# Altium integrated library ST Operational Amplifier.IntLib: 566 symbols (part 7 of 7)
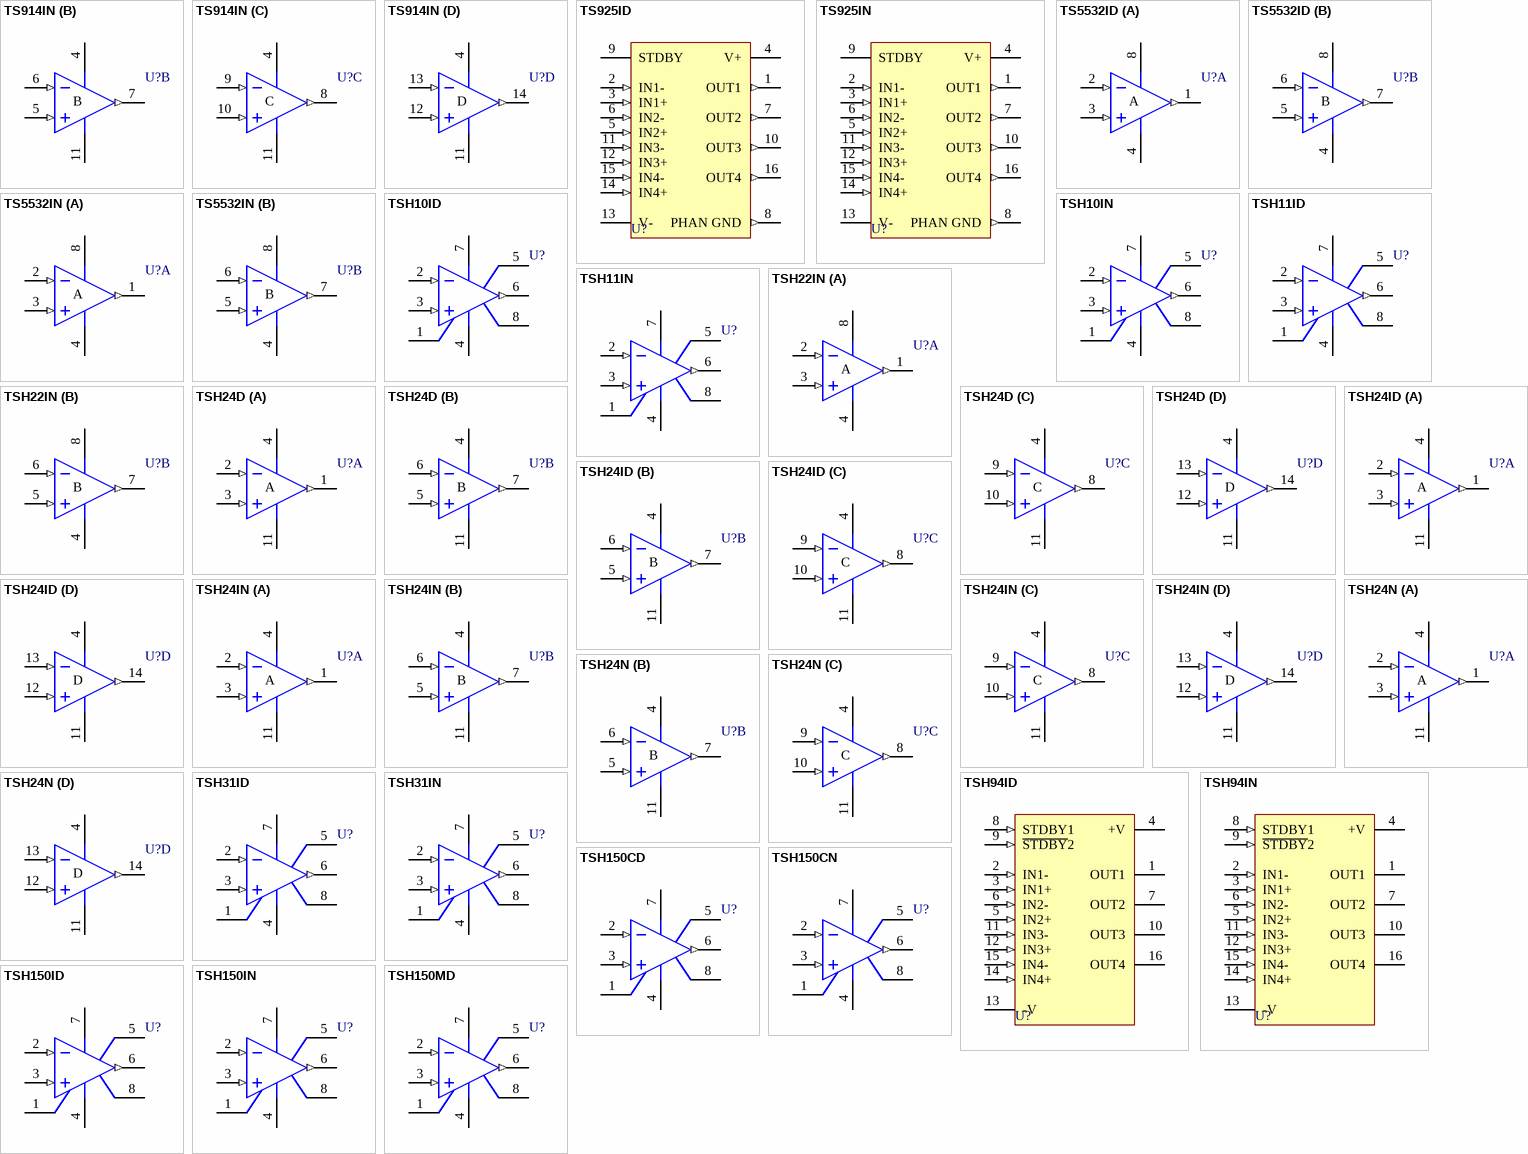
[diagram p38: symbols TS914IN to TSH150MD]

## TSH150ID
designator U?
Wide-Bandwidth and Bipolar Inputs Single Operational Amplifier; Note: Pins 5 is Not Connected; Published: 24-Aug-2001; LatestRevisionDate: 17-Jul-2002; LatestRevisionNote: Re-released for DXP Platform.; DatasheetDocument: Jun-1998; PackageDocument: Jul-1998; PackageReference: SO8; Publisher: Altium Limited; Code_JEDEC: MS-012-AA; Code_IPC: SO8
footprint SO8 (Small Outline; 8 Leads; Body Width 3.9 mm; Pitch 1.27 mm)
pins: 1 NULL1, 2 IN- (in), 3 IN+ (in), 4 V- (power), 5 NC, 6 OUT (out), 7 V+ (power), 8 NULL2

## TSH150IN
designator U?
Wide-Bandwidth and Bipolar Inputs Single Operational Amplifier; Note: Pins 5 is Not Connected; Published: 24-Aug-2001; LatestRevisionDate: 17-Jul-2002; LatestRevisionNote: Re-released for DXP Platform.; DatasheetDocument: Jun-1998; PackageReference: DIP8; Publisher: Altium Limited; Code_JEDEC: MO-001-AN
footprint DIP8 (DIP; 8 Leads; Row Spacing 7.62 mm; Pitch 2.54 mm)
pins: 1 NULL1, 2 IN- (in), 3 IN+ (in), 4 V- (power), 5 NC, 6 OUT (out), 7 V+ (power), 8 NULL2

## TSH150MD
designator U?
Wide-Bandwidth and Bipolar Inputs Single Operational Amplifier; Note: Pins 5 is Not Connected; Published: 24-Aug-2001; LatestRevisionDate: 17-Jul-2002; LatestRevisionNote: Re-released for DXP Platform.; DatasheetDocument: Oct-1995; PackageDocument: Jul-1998; PackageReference: SO8; Publisher: Altium Limited; Code_JEDEC: MS-012-AA; Code_IPC: SO8
footprint SO8 (Small Outline; 8 Leads; Body Width 3.9 mm; Pitch 1.27 mm)
pins: 1 NULL1, 2 IN- (in), 3 IN+ (in), 4 V- (power), 5 NC, 6 OUT (out), 7 V+ (power), 8 NULL2

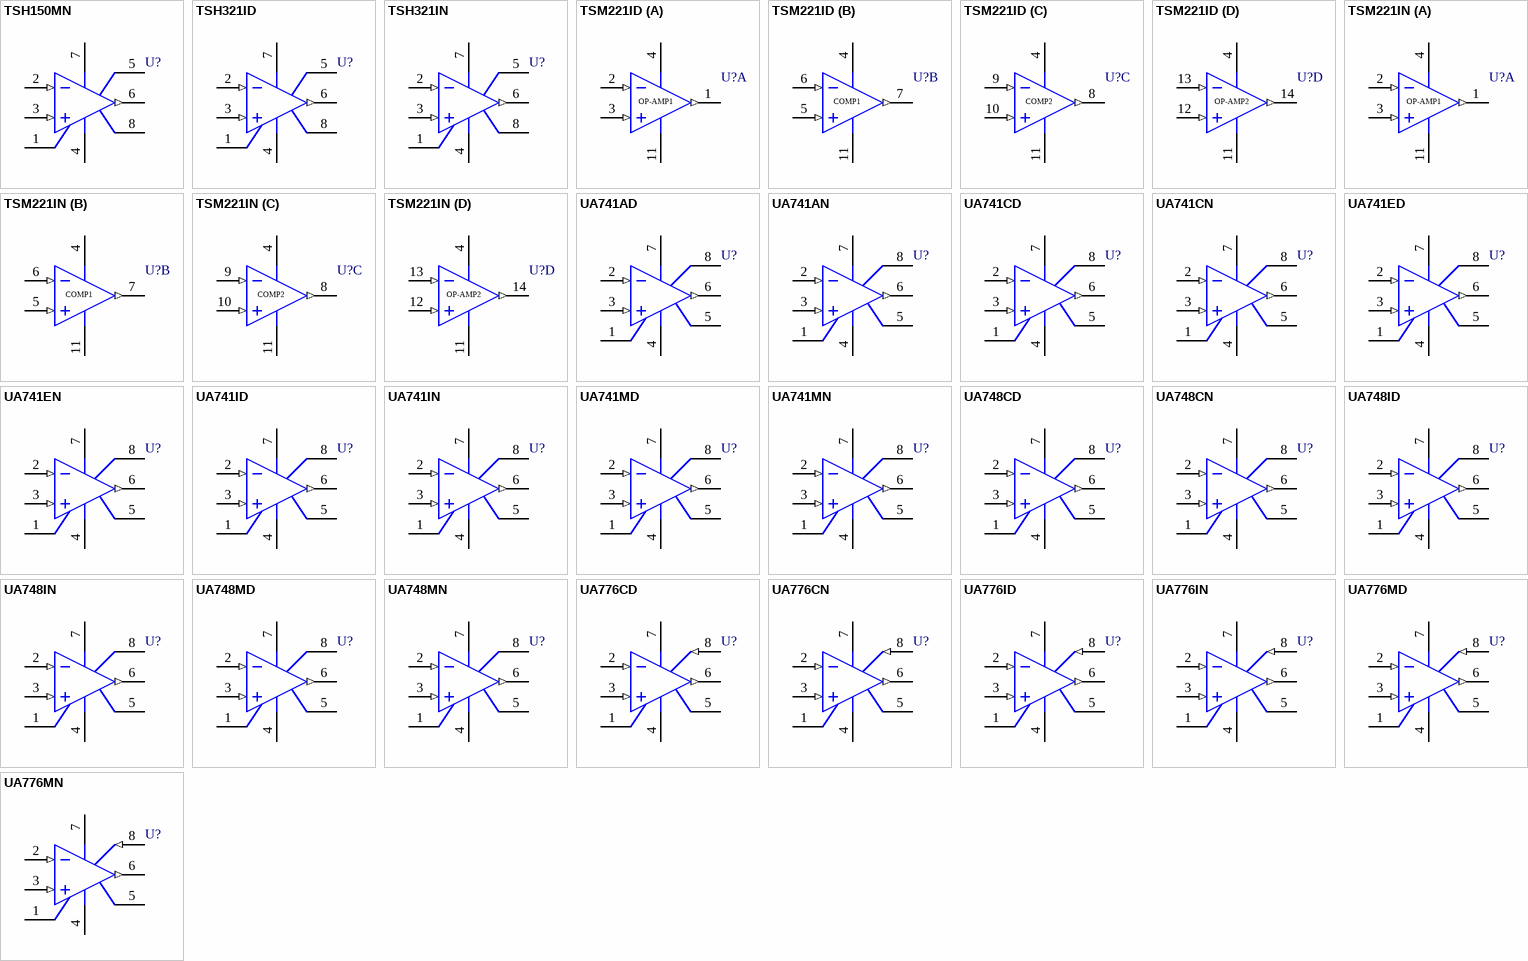
[diagram p32: symbols TSH150MN to UA776MN]

## TSH150MN
designator U?
Wide-Bandwidth and Bipolar Inputs Single Operational Amplifier; Note: Pins 5 is Not Connected; Published: 24-Aug-2001; LatestRevisionDate: 17-Jul-2002; LatestRevisionNote: Re-released for DXP Platform.; DatasheetDocument: Oct-1995; PackageReference: DIP8; Publisher: Altium Limited; Code_JEDEC: MO-001-AN
footprint DIP8 (DIP; 8 Leads; Row Spacing 7.62 mm; Pitch 2.54 mm)
pins: 1 NULL1, 2 IN- (in), 3 IN+ (in), 4 V- (power), 5 NC, 6 OUT (out), 7 V+ (power), 8 NULL2

## TSH321ID
designator U?
Wide-Bandwidth and MOS Inputs Single Operational Amplifier; Note: Pins 5 is Not Connected; Published: 24-Aug-2001; LatestRevisionDate: 17-Jul-2002; LatestRevisionNote: Re-released for DXP Platform.; DatasheetDocument: Jun-1998; PackageDocument: Jul-1998; PackageReference: SO8; Publisher: Altium Limited; Code_JEDEC: MS-012-AA; Code_IPC: SO8
footprint SO8 (Small Outline; 8 Leads; Body Width 3.9 mm; Pitch 1.27 mm)
pins: 1 NULL1, 2 IN- (in), 3 IN+ (in), 4 V- (power), 5 NC, 6 OUT (out), 7 V+ (power), 8 NULL2

## TSH321IN
designator U?
Wide-Bandwidth and MOS Inputs Single Operational Amplifier; Note: Pins 5 is Not Connected; Published: 24-Aug-2001; LatestRevisionDate: 17-Jul-2002; LatestRevisionNote: Re-released for DXP Platform.; DatasheetDocument: Jun-1998; PackageReference: DIP8; Publisher: Altium Limited; Code_JEDEC: MO-001-AN
footprint DIP8 (DIP; 8 Leads; Row Spacing 7.62 mm; Pitch 2.54 mm)
pins: 1 NULL1, 2 IN- (in), 3 IN+ (in), 4 V- (power), 5 NC, 6 OUT (out), 7 V+ (power), 8 NULL2

## TSM221ID
designator U?
Dual CMOS Rail-to-Rail Operational Amplifier and Dual CMOS Comparator; Published: 24-Aug-2001; LatestRevisionDate: 17-Jul-2002; LatestRevisionNote: Re-released for DXP Platform.; DatasheetDocument: Dec-1997; PackageDocument: Sep-1998; PackageReference: SO14; Publisher: Altium Limited
footprint SO14 (Small Outline; 14 Leads; Body Width 3.9 mm; Pitch 1.27 mm)
pins on every part: 4 V+ (power), 11 V- (power)
part A pins: 1 OUT (out), 2 IN- (in), 3 IN+ (in)
part B pins: 5 IN+ (in), 6 IN- (in), 7 OUT (out)
part C pins: 8 OUT (out), 9 IN- (in), 10 IN+ (in)
part D pins: 12 IN+ (in), 13 IN- (in), 14 OUT (out)
part A text: OP-AMP1
part B text: COMP1
part C text: COMP2
part D text: OP-AMP2

## TSM221IN
designator U?
Dual CMOS Rail-to-Rail Operational Amplifier and Dual CMOS Comparator; Published: 24-Aug-2001; LatestRevisionDate: 17-Jul-2002; LatestRevisionNote: Re-released for DXP Platform.; DatasheetDocument: Dec-1997; PackageDocument: Jan-1997; PackageReference: DIP14; Publisher: Altium Limited
footprint DIP14 (DIP; 14 Leads; Row Spacing 7.62 mm; Pitch 2.54 mm)
pins on every part: 4 V+ (power), 11 V- (power)
part A pins: 1 OUT (out), 2 IN- (in), 3 IN+ (in)
part B pins: 5 IN+ (in), 6 IN- (in), 7 OUT (out)
part C pins: 8 OUT (out), 9 IN- (in), 10 IN+ (in)
part D pins: 12 IN+ (in), 13 IN- (in), 14 OUT (out)
part A text: OP-AMP1
part B text: COMP1
part C text: COMP2
part D text: OP-AMP2

## UA741AD
designator U?
General-Purpose Single Operational Amplifier; Published: 24-Aug-2001; LatestRevisionDate: 17-Jul-2002; LatestRevisionNote: Re-released for DXP Platform.; DatasheetDocument: Oct-1997; PackageDocument: Jul-1998; PackageReference: SO8; Publisher: Altium Limited; Code_JEDEC: MS-012-AA; Code_IPC: SO8
footprint SO8 (Small Outline; 8 Leads; Body Width 3.9 mm; Pitch 1.27 mm)
simulation model UA741 (SUBCKT)
pins: 1 OS NULL, 2 IN- (in), 3 IN+ (in), 4 V- (power), 5 OS NULL, 6 OUT (out), 7 V+ (power), 8 NC

## UA741AN
designator U?
General-Purpose Single Operational Amplifier; Published: 24-Aug-2001; LatestRevisionDate: 17-Jul-2002; LatestRevisionNote: Re-released for DXP Platform.; DatasheetDocument: Oct-1997; PackageReference: DIP8; Publisher: Altium Limited; Code_JEDEC: MO-001-AN
footprint DIP8 (DIP; 8 Leads; Row Spacing 7.62 mm; Pitch 2.54 mm)
simulation model UA741 (SUBCKT)
pins: 1 OS NULL, 2 IN- (in), 3 IN+ (in), 4 V- (power), 5 OS NULL, 6 OUT (out), 7 V+ (power), 8 NC

## UA741CD
designator U?
General-Purpose Single Operational Amplifier; Published: 24-Aug-2001; LatestRevisionDate: 17-Jul-2002; LatestRevisionNote: Re-released for DXP Platform.; DatasheetDocument: Oct-1997; PackageDocument: Jul-1998; PackageReference: SO8; Publisher: Altium Limited; Code_JEDEC: MS-012-AA; Code_IPC: SO8
footprint SO8 (Small Outline; 8 Leads; Body Width 3.9 mm; Pitch 1.27 mm)
simulation model UA741 (SUBCKT)
pins: 1 OS NULL, 2 IN- (in), 3 IN+ (in), 4 V- (power), 5 OS NULL, 6 OUT (out), 7 V+ (power), 8 NC

## UA741CN
designator U?
General-Purpose Single Operational Amplifier; Published: 24-Aug-2001; LatestRevisionDate: 17-Jul-2002; LatestRevisionNote: Re-released for DXP Platform.; DatasheetDocument: Oct-1997; PackageReference: DIP8; Publisher: Altium Limited; Code_JEDEC: MO-001-AN
footprint DIP8 (DIP; 8 Leads; Row Spacing 7.62 mm; Pitch 2.54 mm)
simulation model UA741 (SUBCKT)
pins: 1 OS NULL, 2 IN- (in), 3 IN+ (in), 4 V- (power), 5 OS NULL, 6 OUT (out), 7 V+ (power), 8 NC

## UA741ED
designator U?
General-Purpose Single Operational Amplifier; Published: 24-Aug-2001; LatestRevisionDate: 17-Jul-2002; LatestRevisionNote: Re-released for DXP Platform.; DatasheetDocument: Oct-1997; PackageDocument: Jul-1998; PackageReference: SO8; Publisher: Altium Limited; Code_JEDEC: MS-012-AA; Code_IPC: SO8
footprint SO8 (Small Outline; 8 Leads; Body Width 3.9 mm; Pitch 1.27 mm)
simulation model UA741 (SUBCKT)
pins: 1 OS NULL, 2 IN- (in), 3 IN+ (in), 4 V- (power), 5 OS NULL, 6 OUT (out), 7 V+ (power), 8 NC

## UA741EN
designator U?
General-Purpose Single Operational Amplifier; Published: 24-Aug-2001; LatestRevisionDate: 17-Jul-2002; LatestRevisionNote: Re-released for DXP Platform.; DatasheetDocument: Oct-1997; PackageReference: DIP8; Publisher: Altium Limited; Code_JEDEC: MO-001-AN
footprint DIP8 (DIP; 8 Leads; Row Spacing 7.62 mm; Pitch 2.54 mm)
simulation model UA741 (SUBCKT)
pins: 1 OS NULL, 2 IN- (in), 3 IN+ (in), 4 V- (power), 5 OS NULL, 6 OUT (out), 7 V+ (power), 8 NC

## UA741ID
designator U?
General-Purpose Single Operational Amplifier; Published: 24-Aug-2001; LatestRevisionDate: 17-Jul-2002; LatestRevisionNote: Re-released for DXP Platform.; DatasheetDocument: Oct-1997; PackageDocument: Jul-1998; PackageReference: SO8; Publisher: Altium Limited; Code_JEDEC: MS-012-AA; Code_IPC: SO8
footprint SO8 (Small Outline; 8 Leads; Body Width 3.9 mm; Pitch 1.27 mm)
simulation model UA741 (SUBCKT)
pins: 1 OS NULL, 2 IN- (in), 3 IN+ (in), 4 V- (power), 5 OS NULL, 6 OUT (out), 7 V+ (power), 8 NC

## UA741IN
designator U?
General-Purpose Single Operational Amplifier; Published: 24-Aug-2001; LatestRevisionDate: 17-Jul-2002; LatestRevisionNote: Re-released for DXP Platform.; DatasheetDocument: Oct-1997; PackageReference: DIP8; Publisher: Altium Limited; Code_JEDEC: MO-001-AN
footprint DIP8 (DIP; 8 Leads; Row Spacing 7.62 mm; Pitch 2.54 mm)
simulation model UA741 (SUBCKT)
pins: 1 OS NULL, 2 IN- (in), 3 IN+ (in), 4 V- (power), 5 OS NULL, 6 OUT (out), 7 V+ (power), 8 NC

## UA741MD
designator U?
General-Purpose Single Operational Amplifier; Published: 24-Aug-2001; LatestRevisionDate: 17-Jul-2002; LatestRevisionNote: Re-released for DXP Platform.; DatasheetDocument: Oct-1997; PackageDocument: Jul-1998; PackageReference: SO8; Publisher: Altium Limited; Code_JEDEC: MS-012-AA; Code_IPC: SO8
footprint SO8 (Small Outline; 8 Leads; Body Width 3.9 mm; Pitch 1.27 mm)
simulation model UA741 (SUBCKT)
pins: 1 OS NULL, 2 IN- (in), 3 IN+ (in), 4 V- (power), 5 OS NULL, 6 OUT (out), 7 V+ (power), 8 NC

## UA741MN
designator U?
General-Purpose Single Operational Amplifier; Published: 24-Aug-2001; LatestRevisionDate: 17-Jul-2002; LatestRevisionNote: Re-released for DXP Platform.; DatasheetDocument: Oct-1997; PackageReference: DIP8; Publisher: Altium Limited; Code_JEDEC: MO-001-AN
footprint DIP8 (DIP; 8 Leads; Row Spacing 7.62 mm; Pitch 2.54 mm)
simulation model UA741 (SUBCKT)
pins: 1 OS NULL, 2 IN- (in), 3 IN+ (in), 4 V- (power), 5 OS NULL, 6 OUT (out), 7 V+ (power), 8 NC

## UA748CD
designator U?
Precision Single Operational Amplifier; Published: 24-Aug-2001; LatestRevisionDate: 17-Jul-2002; LatestRevisionNote: Re-released for DXP Platform.; DatasheetDocument: Dec-1997; PackageDocument: Jul-1998; PackageReference: SO8; Publisher: Altium Limited; Code_JEDEC: MS-012-AA; Code_IPC: SO8
footprint SO8 (Small Outline; 8 Leads; Body Width 3.9 mm; Pitch 1.27 mm)
simulation model UA748 (SUBCKT)
pins: 1 OS NULL1/FCOMP, 2 IN- (in), 3 IN+ (in), 4 V- (power), 5 OS NULL2, 6 OUT (out), 7 V+ (power), 8 FCOMP

## UA748CN
designator U?
Precision Single Operational Amplifier; Published: 24-Aug-2001; LatestRevisionDate: 17-Jul-2002; LatestRevisionNote: Re-released for DXP Platform.; DatasheetDocument: Dec-1997; PackageReference: DIP8; Publisher: Altium Limited; Code_JEDEC: MO-001-AN
footprint DIP8 (DIP; 8 Leads; Row Spacing 7.62 mm; Pitch 2.54 mm)
simulation model UA748 (SUBCKT)
pins: 1 OS NULL1/FCOMP, 2 IN- (in), 3 IN+ (in), 4 V- (power), 5 OS NULL2, 6 OUT (out), 7 V+ (power), 8 FCOMP

## UA748ID
designator U?
Precision Single Operational Amplifier; Published: 24-Aug-2001; LatestRevisionDate: 17-Jul-2002; LatestRevisionNote: Re-released for DXP Platform.; DatasheetDocument: Dec-1997; PackageDocument: Jul-1998; PackageReference: SO8; Publisher: Altium Limited; Code_JEDEC: MS-012-AA; Code_IPC: SO8
footprint SO8 (Small Outline; 8 Leads; Body Width 3.9 mm; Pitch 1.27 mm)
simulation model UA748 (SUBCKT)
pins: 1 OS NULL1/FCOMP, 2 IN- (in), 3 IN+ (in), 4 V- (power), 5 OS NULL2, 6 OUT (out), 7 V+ (power), 8 FCOMP

## UA748IN
designator U?
Precision Single Operational Amplifier; Published: 24-Aug-2001; LatestRevisionDate: 17-Jul-2002; LatestRevisionNote: Re-released for DXP Platform.; DatasheetDocument: Dec-1997; PackageReference: DIP8; Publisher: Altium Limited; Code_JEDEC: MO-001-AN
footprint DIP8 (DIP; 8 Leads; Row Spacing 7.62 mm; Pitch 2.54 mm)
simulation model UA748 (SUBCKT)
pins: 1 OS NULL1/FCOMP, 2 IN- (in), 3 IN+ (in), 4 V- (power), 5 OS NULL2, 6 OUT (out), 7 V+ (power), 8 FCOMP

## UA748MD
designator U?
Precision Single Operational Amplifier; Published: 24-Aug-2001; LatestRevisionDate: 17-Jul-2002; LatestRevisionNote: Re-released for DXP Platform.; DatasheetDocument: Dec-1997; PackageDocument: Jul-1998; PackageReference: SO8; Publisher: Altium Limited; Code_JEDEC: MS-012-AA; Code_IPC: SO8
footprint SO8 (Small Outline; 8 Leads; Body Width 3.9 mm; Pitch 1.27 mm)
simulation model UA748 (SUBCKT)
pins: 1 OS NULL1/FCOMP, 2 IN- (in), 3 IN+ (in), 4 V- (power), 5 OS NULL2, 6 OUT (out), 7 V+ (power), 8 FCOMP

## UA748MN
designator U?
Precision Single Operational Amplifier; Published: 24-Aug-2001; LatestRevisionDate: 17-Jul-2002; LatestRevisionNote: Re-released for DXP Platform.; DatasheetDocument: Dec-1997; PackageReference: DIP8; Publisher: Altium Limited; Code_JEDEC: MO-001-AN
footprint DIP8 (DIP; 8 Leads; Row Spacing 7.62 mm; Pitch 2.54 mm)
simulation model UA748 (SUBCKT)
pins: 1 OS NULL1/FCOMP, 2 IN- (in), 3 IN+ (in), 4 V- (power), 5 OS NULL2, 6 OUT (out), 7 V+ (power), 8 FCOMP

## UA776CD
designator U?
Programmable Low-Power Single Operational Amplifier; Published: 24-Aug-2001; LatestRevisionDate: 17-Jul-2002; LatestRevisionNote: Re-released for DXP Platform.; DatasheetDocument: Dec-1997; PackageDocument: Jul-1998; PackageReference: SO8; Publisher: Altium Limited; Code_JEDEC: MS-012-AA; Code_IPC: SO8
footprint SO8 (Small Outline; 8 Leads; Body Width 3.9 mm; Pitch 1.27 mm)
pins: 1 OS NULL1, 2 IN- (in), 3 IN+ (in), 4 V- (power), 5 OS NULL2, 6 OUT (out), 7 V+ (power), 8 ISET (in)

## UA776CN
designator U?
Programmable Low-Power Single Operational Amplifier; Published: 24-Aug-2001; LatestRevisionDate: 17-Jul-2002; LatestRevisionNote: Re-released for DXP Platform.; DatasheetDocument: Dec-1997; PackageReference: DIP8; Publisher: Altium Limited; Code_JEDEC: MO-001-AN
footprint DIP8 (DIP; 8 Leads; Row Spacing 7.62 mm; Pitch 2.54 mm)
pins: 1 OS NULL1, 2 IN- (in), 3 IN+ (in), 4 V- (power), 5 OS NULL2, 6 OUT (out), 7 V+ (power), 8 ISET (in)

## UA776ID
designator U?
Programmable Low-Power Single Operational Amplifier; Published: 24-Aug-2001; LatestRevisionDate: 17-Jul-2002; LatestRevisionNote: Re-released for DXP Platform.; DatasheetDocument: Dec-1997; PackageDocument: Jul-1998; PackageReference: SO8; Publisher: Altium Limited; Code_JEDEC: MS-012-AA; Code_IPC: SO8
footprint SO8 (Small Outline; 8 Leads; Body Width 3.9 mm; Pitch 1.27 mm)
pins: 1 OS NULL1, 2 IN- (in), 3 IN+ (in), 4 V- (power), 5 OS NULL2, 6 OUT (out), 7 V+ (power), 8 ISET (in)

## UA776IN
designator U?
Programmable Low-Power Single Operational Amplifier; Published: 24-Aug-2001; LatestRevisionDate: 17-Jul-2002; LatestRevisionNote: Re-released for DXP Platform.; DatasheetDocument: Dec-1997; PackageReference: DIP8; Publisher: Altium Limited; Code_JEDEC: MO-001-AN
footprint DIP8 (DIP; 8 Leads; Row Spacing 7.62 mm; Pitch 2.54 mm)
pins: 1 OS NULL1, 2 IN- (in), 3 IN+ (in), 4 V- (power), 5 OS NULL2, 6 OUT (out), 7 V+ (power), 8 ISET (in)

## UA776MD
designator U?
Programmable Low-Power Single Operational Amplifier; Published: 24-Aug-2001; LatestRevisionDate: 17-Jul-2002; LatestRevisionNote: Re-released for DXP Platform.; DatasheetDocument: Dec-1997; PackageDocument: Jul-1998; PackageReference: SO8; Publisher: Altium Limited; Code_JEDEC: MS-012-AA; Code_IPC: SO8
footprint SO8 (Small Outline; 8 Leads; Body Width 3.9 mm; Pitch 1.27 mm)
pins: 1 OS NULL1, 2 IN- (in), 3 IN+ (in), 4 V- (power), 5 OS NULL2, 6 OUT (out), 7 V+ (power), 8 ISET (in)

## UA776MN
designator U?
Programmable Low-Power Single Operational Amplifier; Published: 24-Aug-2001; LatestRevisionDate: 17-Jul-2002; LatestRevisionNote: Re-released for DXP Platform.; DatasheetDocument: Dec-1997; PackageReference: DIP8; Publisher: Altium Limited; Code_JEDEC: MO-001-AN
footprint DIP8 (DIP; 8 Leads; Row Spacing 7.62 mm; Pitch 2.54 mm)
pins: 1 OS NULL1, 2 IN- (in), 3 IN+ (in), 4 V- (power), 5 OS NULL2, 6 OUT (out), 7 V+ (power), 8 ISET (in)